# EAGLE library part CONN_USB (library STEMTera)
USB Connector
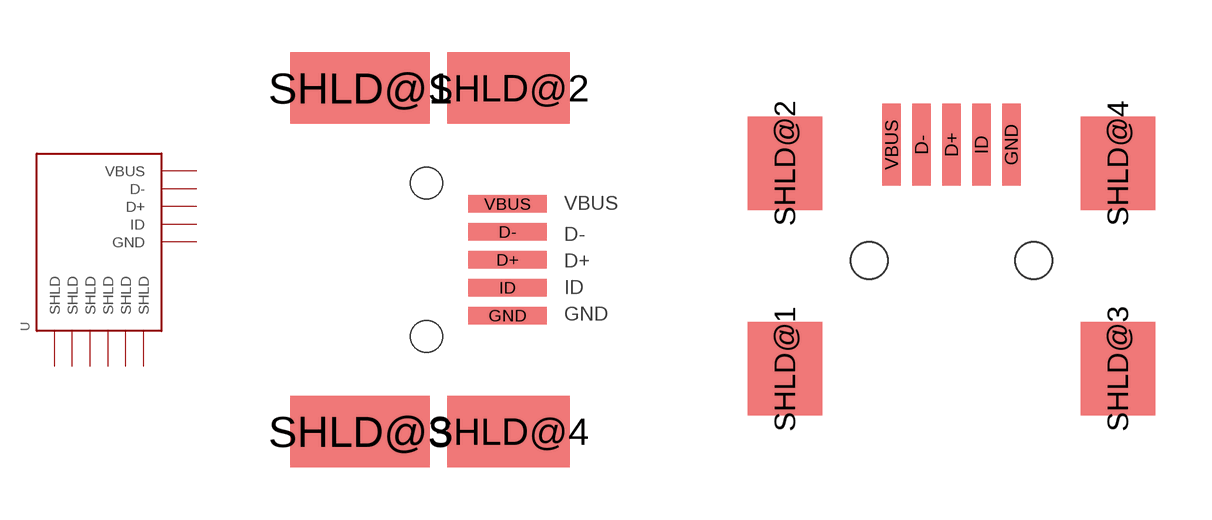
[diagram p1: symbol with the pads of CONN_USB_MINI_B_MOLEX; footprints CONN_USB_MINI_B_MOLEX, CONN_USB_MINI_B_YL]

Designator prefix -

## CONN_USB-MOLEX-0675031020  [CONN_USB_MINI_B_MOLEX]
D+  D+
D-  D-
GND  GND  pwr
ID  ID
SHLD@1  SHLD  pas
SHLD@2  SHLD  pas
SHLD@3  SHLD  pas
SHLD@4  SHLD  pas
VBUS  VBUS  pwr

## CONN_USB-MINI-B-YOU_LONG  [CONN_USB_MINI_B_YL]
Pads as for CONN_USB_MINI_B_MOLEX

## CONN_USB-FCI_10118193-0001LF (DESCRIPTION: Connector Receptacle USB - micro B 2.0 5 Position Surface Mount, Right Angle, Horizontal; MF: FCI; MPN: 10118193-0001LF; OC_DIGIKEY: 609-4616-2-ND; URL: http://www.digikey.com/product-detail/en/10118193-0001LF/609-4616-2-ND/2785388)  [CONN_USB_MICRO_B_10118193-0001LF]
D+  D+
D-  D-
GND  GND  pwr
ID  ID
SHLD@1  SHLD  pas
SHLD@2  SHLD  pas
SHLD@3  SHLD  pas
SHLD@4  SHLD  pas
SHLD@5  SHLD  pas
SHLD@6  SHLD  pas
VBUS  VBUS  pwr

## CONN_USB-MOLEX-0473461001 (DESCRIPTION: USB Connectors USB Micro B Rec BotMt Flangeless SMT; MF: Molex; MPN: 0473461001; OC_DIGIKEY: WM11228CT-ND; URL: http://www.digikey.com.au/product-detail/en/0473461001/WM11228CT-ND/5251259)  [CONN_USB_MICRO_B_47346-1001]
Pads as for CONN_USB_MICRO_B_10118193-0001LF

## Footprint CONN_USB_MINI_B_MOLEX (pad centres in mm)
Molex Mini USB B Receptacle 675031030 From : http://www.molex.com/pdm_docs/sd/675031030_sd.pdf
smd 2.25 x 0.5: D+ 4.225,4.925; D- 4.225,5.725; GND 4.225,3.325; ID 4.225,4.125; VBUS 4.225,6.525
smd 4 x 2.05: SHLD@1 0,9.85; SHLD@3 0,0
smd 3.5 x 2.05: SHLD@2 4.25,9.85; SHLD@4 4.25,0
hole 0.9 at 1.9,2.725
hole 0.9 at 1.9,7.125

## Footprint CONN_USB_MINI_B_YL (pad centres in mm)
smd 0.5 x 2.2: D+ 4.45,6; D- 3.65,6; GND 6.05,6; ID 5.25,6; VBUS 2.85,6
smd 2 x 2.5: SHLD@1 0,0; SHLD@2 0,5.5; SHLD@3 8.9,0; SHLD@4 8.9,5.5
hole 1 at 2.25,2.9
hole 1 at 6.65,2.9

## Footprint CONN_USB_MICRO_B_10118193-0001LF (pad centres in mm)
FCI 10118193-0001LF - MICRO USB : B TYPE RECEPTACLE
smd 0.4 x 1.35: D+ 0,4.125; D- -0.65,4.125; GND 1.3,4.125; ID 0.65,4.125; VBUS -1.3,4.125
smd 1.9 x 1.9: SHLD@1 -1.2,1.45; SHLD@2 1.2,1.45
smd 1.6 x 1.4: SHLD@3 -3.2,3.9; SHLD@4 3.2,3.9
smd 0.9 x 1.6: SHLD@5 -3.3,1.45; SHLD@6 3.3,1.45

## Footprint CONN_USB_MICRO_B_47346-1001 (pad centres in mm)
Micro-USB B Receptacle without Flange, Bottom Mount, Surface Mount, Lead-Free Part Number: 47346-1001
smd 0.45 x 1.38: D+ 0,4.11; D- -0.65,4.11; GND 1.3,4.11; ID 0.65,4.11; VBUS -1.3,4.11
smd 1.45 x 2.1: SHLD@1 -2.475,3.75; SHLD@2 2.475,3.75
smd 2.375 x 1.9: SHLD@3 -2.913,1.45; SHLD@6 2.913,1.45
smd 1.175 x 1.9: SHLD@4 -0.838,1.45; SHLD@5 0.838,1.45